# Altium footprint library Switch.PcbLib: 22 footprints (part 1 of 2)
Each footprint in its own frame and in the unit in brackets; x right, y up, seen from the top. Pads: shape width x height; smd on the part's side, far side on the other; paste and mask are expansions set on the pad; w line width, h text height; cw(c..) or ccw(c..) is an arc to the next point about the centre after c.
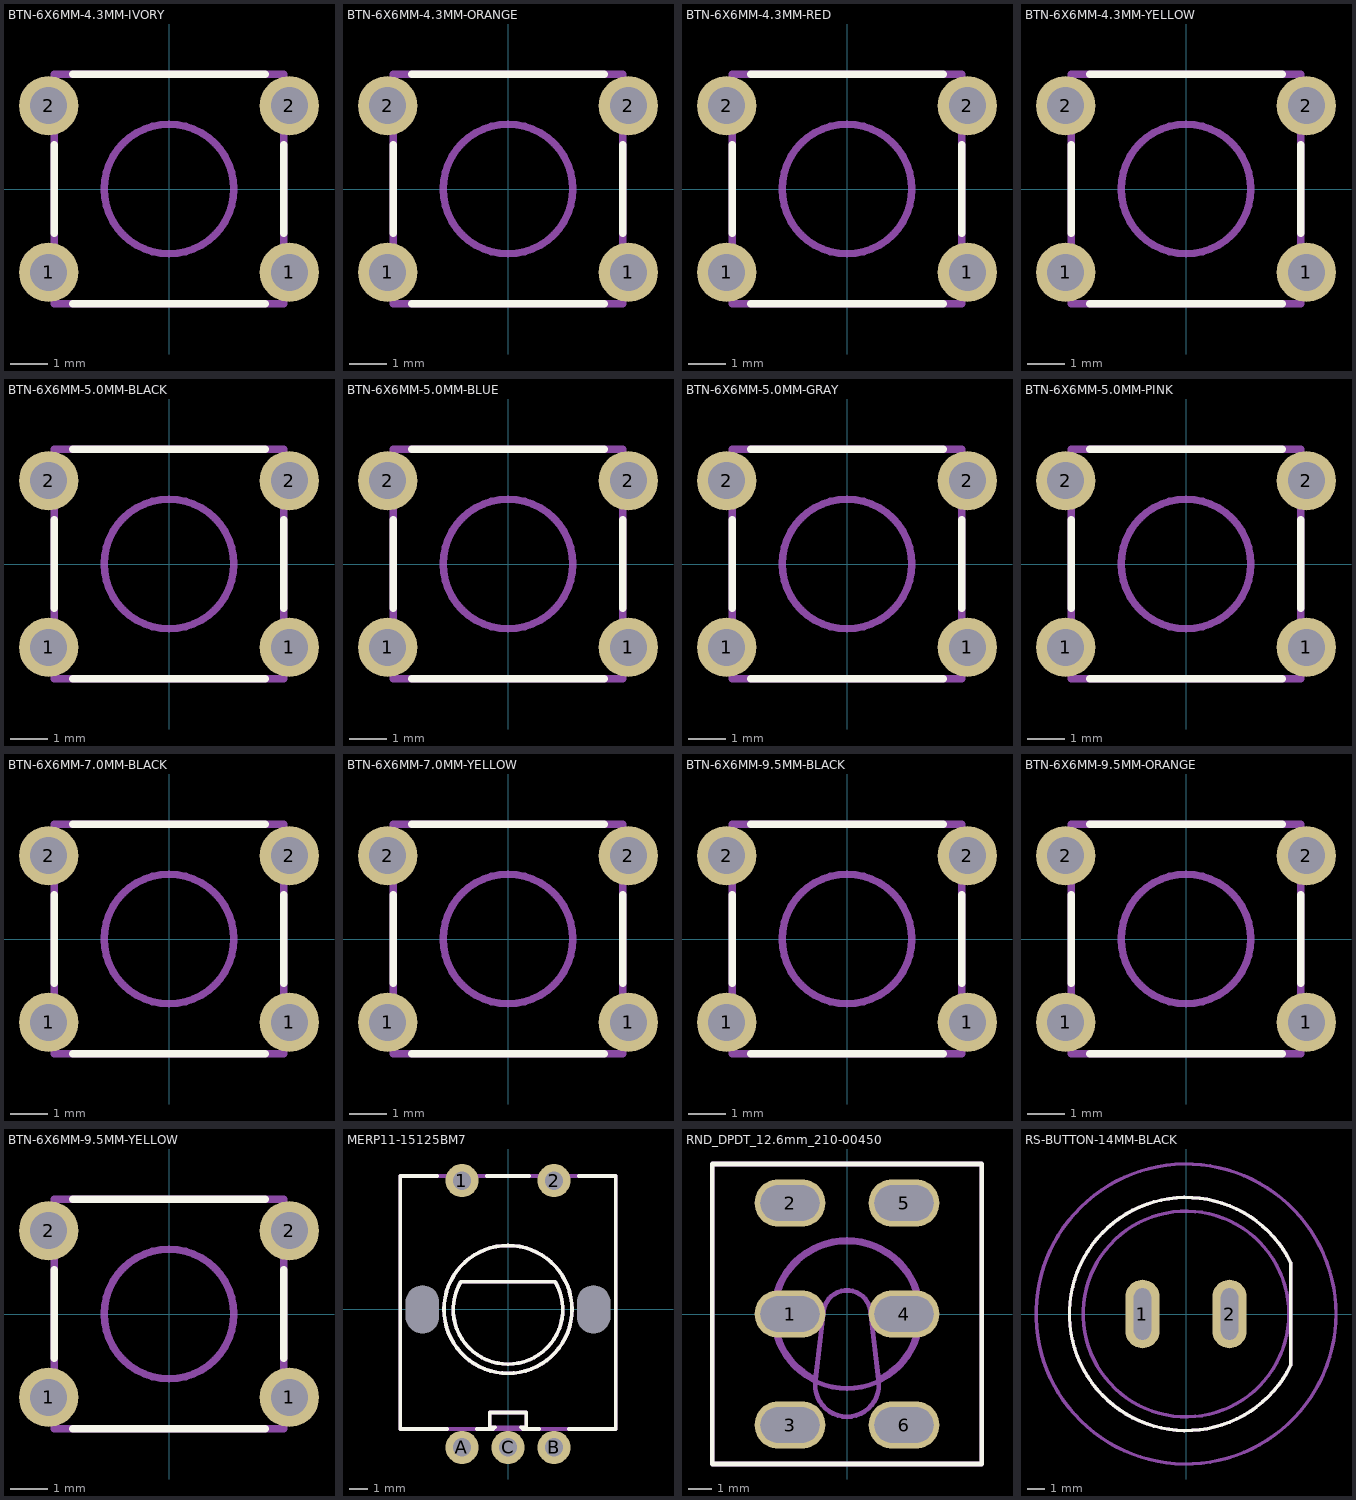
[diagram p0: the footprints below, top view; thin cyan lines are the x and y axes]

## BTN-6X6MM-4.3MM-IVORY [mm]
pads (4):
  round 1.6 hole 1: 1(-3.25,-2.25) 1(3.25,-2.25) 2(-3.25,2.25) 2(3.25,2.25)
Top Overlay:
  lines w0.2: -3.1,-1.2 -3.1,1.2 ; -2.6,-3.1 2.6,-3.1 ; -2.6,3.1 2.6,3.1 ; 3.1,-1.2 3.1,1.2
Top Assembly:
  circle w0.2: c0,0 r1.75
  lines w0.2: -3.1,-2.6 -3.85,-2.6 -3.85,-1.9 -3.1,-1.9 ; -3.1,1.9 -3.85,1.9 -3.85,2.6 -3.1,2.6 ; 3.1,-2.6 3.85,-2.6 3.85,-1.9 3.1,-1.9 ; 3.1,1.9 3.85,1.9 3.85,2.6 3.1,2.6 ; -3.1,-3.1 3.1,-3.1 3.1,3.1 -3.1,3.1 -3.1,-3.1
3D body: height 1.16, standoff -3.49, extent -3.85,1.9 -3.1,2.6
3D body: height 1.16, standoff -3.49, extent -3.85,-2.6 -3.1,-1.9
3D body: height 1.16, standoff -3.49, extent 3.1,-2.6 3.85,-1.9
3D body: height 4.3, standoff 3.3, extent -1.75,-1.75 1.75,1.75
3D body: height 3.9, standoff 2.9, extent 1.8,-2.8 2.8,-1.8
3D body: height 3.9, standoff 2.9, extent -2.8,-2.8 -1.8,-1.8
3D body: height 3.9, standoff 2.9, extent -2.8,1.8 -1.8,2.8
3D body: height 3.9, standoff 2.9, extent 1.818,1.818 2.818,2.818
3D body: height 3.3, standoff 0, extent -3.1,-3.1 3.1,3.1
3D body: height 3.4, standoff 3.3, extent -3.1,-3.1 3.1,3.1
3D body: height 1.16, standoff -3.49, extent 3.1,1.9 3.85,2.6

## BTN-6X6MM-4.3MM-ORANGE [mm]
pads (4):
  round 1.6 hole 1: 1(-3.25,-2.25) 1(3.25,-2.25) 2(-3.25,2.25) 2(3.25,2.25)
Top Overlay:
  lines w0.2: -3.1,-1.2 -3.1,1.2 ; -2.6,-3.1 2.6,-3.1 ; -2.6,3.1 2.6,3.1 ; 3.1,-1.2 3.1,1.2
Top Assembly:
  circle w0.2: c0,0 r1.75
  lines w0.2: -3.1,-2.6 -3.85,-2.6 -3.85,-1.9 -3.1,-1.9 ; -3.1,1.9 -3.85,1.9 -3.85,2.6 -3.1,2.6 ; 3.1,-2.6 3.85,-2.6 3.85,-1.9 3.1,-1.9 ; 3.1,1.9 3.85,1.9 3.85,2.6 3.1,2.6 ; -3.1,-3.1 3.1,-3.1 3.1,3.1 -3.1,3.1 -3.1,-3.1
3D body: height 1.16, standoff -3.49, extent -3.85,1.9 -3.1,2.6
3D body: height 1.16, standoff -3.49, extent -3.85,-2.6 -3.1,-1.9
3D body: height 1.16, standoff -3.49, extent 3.1,-2.6 3.85,-1.9
3D body: height 4.3, standoff 3.3, extent -1.75,-1.75 1.75,1.75
3D body: height 3.9, standoff 2.9, extent 1.8,-2.8 2.8,-1.8
3D body: height 3.9, standoff 2.9, extent -2.8,-2.8 -1.8,-1.8
3D body: height 3.9, standoff 2.9, extent -2.8,1.8 -1.8,2.8
3D body: height 3.9, standoff 2.9, extent 1.818,1.818 2.818,2.818
3D body: height 3.3, standoff 0, extent -3.1,-3.1 3.1,3.1
3D body: height 3.4, standoff 3.3, extent -3.1,-3.1 3.1,3.1
3D body: height 1.16, standoff -3.49, extent 3.1,1.9 3.85,2.6

## BTN-6X6MM-4.3MM-RED [mm]
pads (4):
  round 1.6 hole 1: 1(-3.25,-2.25) 1(3.25,-2.25) 2(-3.25,2.25) 2(3.25,2.25)
Top Overlay:
  lines w0.2: -3.1,-1.2 -3.1,1.2 ; -2.6,-3.1 2.6,-3.1 ; -2.6,3.1 2.6,3.1 ; 3.1,-1.2 3.1,1.2
Top Assembly:
  circle w0.2: c0,0 r1.75
  lines w0.2: -3.1,-2.6 -3.85,-2.6 -3.85,-1.9 -3.1,-1.9 ; -3.1,1.9 -3.85,1.9 -3.85,2.6 -3.1,2.6 ; 3.1,-2.6 3.85,-2.6 3.85,-1.9 3.1,-1.9 ; 3.1,1.9 3.85,1.9 3.85,2.6 3.1,2.6 ; -3.1,-3.1 3.1,-3.1 3.1,3.1 -3.1,3.1 -3.1,-3.1
3D body: height 1.16, standoff -3.49, extent -3.85,1.9 -3.1,2.6
3D body: height 1.16, standoff -3.49, extent -3.85,-2.6 -3.1,-1.9
3D body: height 1.16, standoff -3.49, extent 3.1,-2.6 3.85,-1.9
3D body: height 4.3, standoff 3.3, extent -1.75,-1.75 1.75,1.75
3D body: height 3.9, standoff 2.9, extent 1.8,-2.8 2.8,-1.8
3D body: height 3.9, standoff 2.9, extent -2.8,-2.8 -1.8,-1.8
3D body: height 3.9, standoff 2.9, extent -2.8,1.8 -1.8,2.8
3D body: height 3.9, standoff 2.9, extent 1.818,1.818 2.818,2.818
3D body: height 3.3, standoff 0, extent -3.1,-3.1 3.1,3.1
3D body: height 3.4, standoff 3.3, extent -3.1,-3.1 3.1,3.1
3D body: height 1.16, standoff -3.49, extent 3.1,1.9 3.85,2.6

## BTN-6X6MM-4.3MM-YELLOW [mm]
pads (4):
  round 1.6 hole 1: 1(-3.25,-2.25) 1(3.25,-2.25) 2(-3.25,2.25) 2(3.25,2.25)
Top Overlay:
  lines w0.2: -3.1,-1.2 -3.1,1.2 ; -2.6,-3.1 2.6,-3.1 ; -2.6,3.1 2.6,3.1 ; 3.1,-1.2 3.1,1.2
Top Assembly:
  circle w0.2: c0,0 r1.75
  lines w0.2: -3.1,-2.6 -3.85,-2.6 -3.85,-1.9 -3.1,-1.9 ; -3.1,1.9 -3.85,1.9 -3.85,2.6 -3.1,2.6 ; 3.1,-2.6 3.85,-2.6 3.85,-1.9 3.1,-1.9 ; 3.1,1.9 3.85,1.9 3.85,2.6 3.1,2.6 ; -3.1,-3.1 3.1,-3.1 3.1,3.1 -3.1,3.1 -3.1,-3.1
3D body: height 1.16, standoff -3.49, extent -3.85,1.9 -3.1,2.6
3D body: height 1.16, standoff -3.49, extent -3.85,-2.6 -3.1,-1.9
3D body: height 1.16, standoff -3.49, extent 3.1,-2.6 3.85,-1.9
3D body: height 4.3, standoff 3.3, extent -1.75,-1.75 1.75,1.75
3D body: height 3.9, standoff 2.9, extent 1.8,-2.8 2.8,-1.8
3D body: height 3.9, standoff 2.9, extent -2.8,-2.8 -1.8,-1.8
3D body: height 3.9, standoff 2.9, extent -2.8,1.8 -1.8,2.8
3D body: height 3.9, standoff 2.9, extent 1.818,1.818 2.818,2.818
3D body: height 3.3, standoff 0, extent -3.1,-3.1 3.1,3.1
3D body: height 3.4, standoff 3.3, extent -3.1,-3.1 3.1,3.1
3D body: height 1.16, standoff -3.49, extent 3.1,1.9 3.85,2.6

## BTN-6X6MM-5.0MM-BLACK [mm]
pads (4):
  round 1.6 hole 1: 1(-3.25,-2.25) 1(3.25,-2.25) 2(-3.25,2.25) 2(3.25,2.25)
Top Overlay:
  lines w0.2: -3.1,-1.2 -3.1,1.2 ; -2.6,-3.1 2.6,-3.1 ; -2.6,3.1 2.6,3.1 ; 3.1,-1.2 3.1,1.2
Top Assembly:
  circle w0.2: c0,0 r1.75
  lines w0.2: -3.1,-2.6 -3.85,-2.6 -3.85,-1.9 -3.1,-1.9 ; -3.1,1.9 -3.85,1.9 -3.85,2.6 -3.1,2.6 ; 3.1,-2.6 3.85,-2.6 3.85,-1.9 3.1,-1.9 ; 3.1,1.9 3.85,1.9 3.85,2.6 3.1,2.6 ; -3.1,-3.1 -3.1,3.1 3.1,3.1 3.1,-3.1 -3.1,-3.1
3D body: height 1.16, standoff -3.49, extent 3.1,1.9 3.85,2.6
3D body: height 3.4, standoff 3.3, extent -3.1,-3.1 3.1,3.1
3D body: height 3.3, standoff 0, extent -3.1,-3.1 3.1,3.1
3D body: height 3.9, standoff 2.9, extent 1.818,1.818 2.818,2.818
3D body: height 3.9, standoff 2.9, extent -2.8,1.8 -1.8,2.8
3D body: height 3.9, standoff 2.9, extent -2.8,-2.8 -1.8,-1.8
3D body: height 3.9, standoff 2.9, extent 1.8,-2.8 2.8,-1.8
3D body: height 5, standoff 3.3, extent -1.75,-1.75 1.75,1.75
3D body: height 1.16, standoff -3.49, extent 3.1,-2.6 3.85,-1.9
3D body: height 1.16, standoff -3.49, extent -3.85,-2.6 -3.1,-1.9
3D body: height 1.16, standoff -3.49, extent -3.85,1.9 -3.1,2.6

## BTN-6X6MM-5.0MM-BLUE [mm]
pads (4):
  round 1.6 hole 1: 1(-3.25,-2.25) 1(3.25,-2.25) 2(-3.25,2.25) 2(3.25,2.25)
Top Overlay:
  lines w0.2: -3.1,-1.2 -3.1,1.2 ; -2.6,-3.1 2.6,-3.1 ; -2.6,3.1 2.6,3.1 ; 3.1,-1.2 3.1,1.2
Top Assembly:
  circle w0.2: c0,0 r1.75
  lines w0.2: -3.1,-2.6 -3.85,-2.6 -3.85,-1.9 -3.1,-1.9 ; -3.1,1.9 -3.85,1.9 -3.85,2.6 -3.1,2.6 ; 3.1,-2.6 3.85,-2.6 3.85,-1.9 3.1,-1.9 ; 3.1,1.9 3.85,1.9 3.85,2.6 3.1,2.6 ; -3.1,-3.1 -3.1,3.1 3.1,3.1 3.1,-3.1 -3.1,-3.1
3D body: height 1.16, standoff -3.49, extent 3.1,1.9 3.85,2.6
3D body: height 3.4, standoff 3.3, extent -3.1,-3.1 3.1,3.1
3D body: height 3.3, standoff 0, extent -3.1,-3.1 3.1,3.1
3D body: height 3.9, standoff 2.9, extent 1.818,1.818 2.818,2.818
3D body: height 3.9, standoff 2.9, extent -2.8,1.8 -1.8,2.8
3D body: height 3.9, standoff 2.9, extent -2.8,-2.8 -1.8,-1.8
3D body: height 3.9, standoff 2.9, extent 1.8,-2.8 2.8,-1.8
3D body: height 5, standoff 3.3, extent -1.75,-1.75 1.75,1.75
3D body: height 1.16, standoff -3.49, extent 3.1,-2.6 3.85,-1.9
3D body: height 1.16, standoff -3.49, extent -3.85,-2.6 -3.1,-1.9
3D body: height 1.16, standoff -3.49, extent -3.85,1.9 -3.1,2.6

## BTN-6X6MM-5.0MM-GRAY [mm]
pads (4):
  round 1.6 hole 1: 1(-3.25,-2.25) 1(3.25,-2.25) 2(-3.25,2.25) 2(3.25,2.25)
Top Overlay:
  lines w0.2: -3.1,-1.2 -3.1,1.2 ; -2.6,-3.1 2.6,-3.1 ; -2.6,3.1 2.6,3.1 ; 3.1,-1.2 3.1,1.2
Top Assembly:
  circle w0.2: c0,0 r1.75
  lines w0.2: -3.1,-2.6 -3.85,-2.6 -3.85,-1.9 -3.1,-1.9 ; -3.1,1.9 -3.85,1.9 -3.85,2.6 -3.1,2.6 ; 3.1,-2.6 3.85,-2.6 3.85,-1.9 3.1,-1.9 ; 3.1,1.9 3.85,1.9 3.85,2.6 3.1,2.6 ; -3.1,-3.1 -3.1,3.1 3.1,3.1 3.1,-3.1 -3.1,-3.1
3D body: height 1.16, standoff -3.49, extent 3.1,1.9 3.85,2.6
3D body: height 3.4, standoff 3.3, extent -3.1,-3.1 3.1,3.1
3D body: height 3.3, standoff 0, extent -3.1,-3.1 3.1,3.1
3D body: height 3.9, standoff 2.9, extent 1.818,1.818 2.818,2.818
3D body: height 3.9, standoff 2.9, extent -2.8,1.8 -1.8,2.8
3D body: height 3.9, standoff 2.9, extent -2.8,-2.8 -1.8,-1.8
3D body: height 3.9, standoff 2.9, extent 1.8,-2.8 2.8,-1.8
3D body: height 5, standoff 3.3, extent -1.75,-1.75 1.75,1.75
3D body: height 1.16, standoff -3.49, extent 3.1,-2.6 3.85,-1.9
3D body: height 1.16, standoff -3.49, extent -3.85,-2.6 -3.1,-1.9
3D body: height 1.16, standoff -3.49, extent -3.85,1.9 -3.1,2.6

## BTN-6X6MM-5.0MM-PINK [mm]
pads (4):
  round 1.6 hole 1: 1(-3.25,-2.25) 1(3.25,-2.25) 2(-3.25,2.25) 2(3.25,2.25)
Top Overlay:
  lines w0.2: -3.1,-1.2 -3.1,1.2 ; -2.6,-3.1 2.6,-3.1 ; -2.6,3.1 2.6,3.1 ; 3.1,-1.2 3.1,1.2
Top Assembly:
  circle w0.2: c0,0 r1.75
  lines w0.2: -3.1,-2.6 -3.85,-2.6 -3.85,-1.9 -3.1,-1.9 ; -3.1,1.9 -3.85,1.9 -3.85,2.6 -3.1,2.6 ; 3.1,-2.6 3.85,-2.6 3.85,-1.9 3.1,-1.9 ; 3.1,1.9 3.85,1.9 3.85,2.6 3.1,2.6 ; -3.1,-3.1 -3.1,3.1 3.1,3.1 3.1,-3.1 -3.1,-3.1
3D body: height 1.16, standoff -3.49, extent 3.1,1.9 3.85,2.6
3D body: height 3.4, standoff 3.3, extent -3.1,-3.1 3.1,3.1
3D body: height 3.3, standoff 0, extent -3.1,-3.1 3.1,3.1
3D body: height 3.9, standoff 2.9, extent 1.818,1.818 2.818,2.818
3D body: height 3.9, standoff 2.9, extent -2.8,1.8 -1.8,2.8
3D body: height 3.9, standoff 2.9, extent -2.8,-2.8 -1.8,-1.8
3D body: height 3.9, standoff 2.9, extent 1.8,-2.8 2.8,-1.8
3D body: height 5, standoff 3.3, extent -1.75,-1.75 1.75,1.75
3D body: height 1.16, standoff -3.49, extent 3.1,-2.6 3.85,-1.9
3D body: height 1.16, standoff -3.49, extent -3.85,-2.6 -3.1,-1.9
3D body: height 1.16, standoff -3.49, extent -3.85,1.9 -3.1,2.6

## BTN-6X6MM-7.0MM-BLACK [mm]
pads (4):
  round 1.6 hole 1: 1(-3.25,-2.25) 1(3.25,-2.25) 2(-3.25,2.25) 2(3.25,2.25)
Top Overlay:
  lines w0.2: -3.1,-1.2 -3.1,1.2 ; -2.6,-3.1 2.6,-3.1 ; -2.6,3.1 2.6,3.1 ; 3.1,-1.2 3.1,1.2
Top Assembly:
  circle w0.2: c0,0 r1.75
  lines w0.2: -3.1,-2.6 -3.85,-2.6 -3.85,-1.9 -3.1,-1.9 ; -3.1,1.9 -3.85,1.9 -3.85,2.6 -3.1,2.6 ; 3.1,-2.6 3.85,-2.6 3.85,-1.9 3.1,-1.9 ; 3.1,1.9 3.85,1.9 3.85,2.6 3.1,2.6 ; -3.1,-3.1 3.1,-3.1 3.1,3.1 -3.1,3.1 -3.1,-3.1
3D body: height 1.16, standoff -3.49, extent -3.85,1.9 -3.1,2.6
3D body: height 1.16, standoff -3.49, extent -3.85,-2.6 -3.1,-1.9
3D body: height 1.16, standoff -3.49, extent 3.1,-2.6 3.85,-1.9
3D body: height 7, standoff 3.3, extent -1.75,-1.75 1.75,1.75
3D body: height 3.9, standoff 2.9, extent 1.8,-2.8 2.8,-1.8
3D body: height 3.9, standoff 2.9, extent -2.8,-2.8 -1.8,-1.8
3D body: height 3.9, standoff 2.9, extent -2.8,1.8 -1.8,2.8
3D body: height 3.9, standoff 2.9, extent 1.818,1.818 2.818,2.818
3D body: height 3.3, standoff 0, extent -3.1,-3.1 3.1,3.1
3D body: height 3.4, standoff 3.3, extent -3.1,-3.1 3.1,3.1
3D body: height 1.16, standoff -3.49, extent 3.1,1.9 3.85,2.6

## BTN-6X6MM-7.0MM-YELLOW [mm]
pads (4):
  round 1.6 hole 1: 1(-3.25,-2.25) 1(3.25,-2.25) 2(-3.25,2.25) 2(3.25,2.25)
Top Overlay:
  lines w0.2: -3.1,-1.2 -3.1,1.2 ; -2.6,-3.1 2.6,-3.1 ; -2.6,3.1 2.6,3.1 ; 3.1,-1.2 3.1,1.2
Top Assembly:
  circle w0.2: c0,0 r1.75
  lines w0.2: -3.1,-2.6 -3.85,-2.6 -3.85,-1.9 -3.1,-1.9 ; -3.1,1.9 -3.85,1.9 -3.85,2.6 -3.1,2.6 ; 3.1,-2.6 3.85,-2.6 3.85,-1.9 3.1,-1.9 ; 3.1,1.9 3.85,1.9 3.85,2.6 3.1,2.6 ; -3.1,-3.1 -3.1,3.1 3.1,3.1 3.1,-3.1 -3.1,-3.1
3D body: height 1.16, standoff -3.49, extent 3.1,1.9 3.85,2.6
3D body: height 3.4, standoff 3.3, extent -3.1,-3.1 3.1,3.1
3D body: height 3.3, standoff 0, extent -3.1,-3.1 3.1,3.1
3D body: height 3.9, standoff 2.9, extent 1.818,1.818 2.818,2.818
3D body: height 3.9, standoff 2.9, extent -2.8,1.8 -1.8,2.8
3D body: height 3.9, standoff 2.9, extent -2.8,-2.8 -1.8,-1.8
3D body: height 3.9, standoff 2.9, extent 1.8,-2.8 2.8,-1.8
3D body: height 7, standoff 3.3, extent -1.75,-1.75 1.75,1.75
3D body: height 1.16, standoff -3.49, extent 3.1,-2.6 3.85,-1.9
3D body: height 1.16, standoff -3.49, extent -3.85,-2.6 -3.1,-1.9
3D body: height 1.16, standoff -3.49, extent -3.85,1.9 -3.1,2.6

## BTN-6X6MM-9.5MM-BLACK [mm]
pads (4):
  round 1.6 hole 1: 1(-3.25,-2.25) 1(3.25,-2.25) 2(-3.25,2.25) 2(3.25,2.25)
Top Overlay:
  lines w0.2: -3.1,-1.2 -3.1,1.2 ; -2.6,-3.1 2.6,-3.1 ; -2.6,3.1 2.6,3.1 ; 3.1,-1.2 3.1,1.2
Top Assembly:
  circle w0.2: c0,0 r1.75
  lines w0.2: -3.1,-2.6 -3.85,-2.6 -3.85,-1.9 -3.1,-1.9 ; -3.1,1.9 -3.85,1.9 -3.85,2.6 -3.1,2.6 ; 3.1,-2.6 3.85,-2.6 3.85,-1.9 3.1,-1.9 ; 3.1,1.9 3.85,1.9 3.85,2.6 3.1,2.6 ; -3.1,-3.1 -3.1,3.1 3.1,3.1 3.1,-3.1 -3.1,-3.1
3D body: height 1.16, standoff -3.49, extent 3.1,1.9 3.85,2.6
3D body: height 3.4, standoff 3.3, extent -3.1,-3.1 3.1,3.1
3D body: height 3.3, standoff 0, extent -3.1,-3.1 3.1,3.1
3D body: height 3.9, standoff 2.9, extent 1.818,1.818 2.818,2.818
3D body: height 3.9, standoff 2.9, extent -2.8,1.8 -1.8,2.8
3D body: height 3.9, standoff 2.9, extent -2.8,-2.8 -1.8,-1.8
3D body: height 3.9, standoff 2.9, extent 1.8,-2.8 2.8,-1.8
3D body: height 9.5, standoff 3.3, extent -1.75,-1.75 1.75,1.75
3D body: height 1.16, standoff -3.49, extent 3.1,-2.6 3.85,-1.9
3D body: height 1.16, standoff -3.49, extent -3.85,-2.6 -3.1,-1.9
3D body: height 1.16, standoff -3.49, extent -3.85,1.9 -3.1,2.6

## BTN-6X6MM-9.5MM-ORANGE [mm]
pads (4):
  round 1.6 hole 1: 1(-3.25,-2.25) 1(3.25,-2.25) 2(-3.25,2.25) 2(3.25,2.25)
Top Overlay:
  lines w0.2: -3.1,-1.2 -3.1,1.2 ; -2.6,-3.1 2.6,-3.1 ; -2.6,3.1 2.6,3.1 ; 3.1,-1.2 3.1,1.2
Top Assembly:
  circle w0.2: c0,0 r1.75
  lines w0.2: -3.1,-2.6 -3.85,-2.6 -3.85,-1.9 -3.1,-1.9 ; -3.1,1.9 -3.85,1.9 -3.85,2.6 -3.1,2.6 ; 3.1,-2.6 3.85,-2.6 3.85,-1.9 3.1,-1.9 ; 3.1,1.9 3.85,1.9 3.85,2.6 3.1,2.6 ; -3.1,-3.1 3.1,-3.1 3.1,3.1 -3.1,3.1 -3.1,-3.1
3D body: height 1.16, standoff -3.49, extent -3.85,1.9 -3.1,2.6
3D body: height 1.16, standoff -3.49, extent -3.85,-2.6 -3.1,-1.9
3D body: height 1.16, standoff -3.49, extent 3.1,-2.6 3.85,-1.9
3D body: height 9.5, standoff 3.3, extent -1.75,-1.75 1.75,1.75
3D body: height 3.9, standoff 2.9, extent 1.8,-2.8 2.8,-1.8
3D body: height 3.9, standoff 2.9, extent -2.8,-2.8 -1.8,-1.8
3D body: height 3.9, standoff 2.9, extent -2.8,1.8 -1.8,2.8
3D body: height 3.9, standoff 2.9, extent 1.818,1.818 2.818,2.818
3D body: height 3.3, standoff 0, extent -3.1,-3.1 3.1,3.1
3D body: height 3.4, standoff 3.3, extent -3.1,-3.1 3.1,3.1
3D body: height 1.16, standoff -3.49, extent 3.1,1.9 3.85,2.6

## BTN-6X6MM-9.5MM-YELLOW [mm]
pads (4):
  round 1.6 hole 1: 1(-3.25,-2.25) 1(3.25,-2.25) 2(-3.25,2.25) 2(3.25,2.25)
Top Overlay:
  lines w0.2: -3.1,-1.2 -3.1,1.2 ; -2.6,-3.1 2.6,-3.1 ; -2.6,3.1 2.6,3.1 ; 3.1,-1.2 3.1,1.2
Top Assembly:
  circle w0.2: c0,0 r1.75
  lines w0.2: -3.1,-2.6 -3.85,-2.6 -3.85,-1.9 -3.1,-1.9 ; -3.1,1.9 -3.85,1.9 -3.85,2.6 -3.1,2.6 ; 3.1,-2.6 3.85,-2.6 3.85,-1.9 3.1,-1.9 ; 3.1,1.9 3.85,1.9 3.85,2.6 3.1,2.6 ; -3.1,-3.1 3.1,-3.1 3.1,3.1 -3.1,3.1 -3.1,-3.1
3D body: height 1.16, standoff -3.49, extent -3.85,1.9 -3.1,2.6
3D body: height 1.16, standoff -3.49, extent -3.85,-2.6 -3.1,-1.9
3D body: height 1.16, standoff -3.49, extent 3.1,-2.6 3.85,-1.9
3D body: height 9.5, standoff 3.3, extent -1.75,-1.75 1.75,1.75
3D body: height 3.9, standoff 2.9, extent 1.8,-2.8 2.8,-1.8
3D body: height 3.9, standoff 2.9, extent -2.8,-2.8 -1.8,-1.8
3D body: height 3.9, standoff 2.9, extent -2.8,1.8 -1.8,2.8
3D body: height 3.9, standoff 2.9, extent 1.818,1.818 2.818,2.818
3D body: height 3.3, standoff 0, extent -3.1,-3.1 3.1,3.1
3D body: height 3.4, standoff 3.3, extent -3.1,-3.1 3.1,3.1
3D body: height 1.16, standoff -3.49, extent 3.1,1.9 3.85,2.6

## MERP11-15125BM7 [mm] "Knitter Switch MERP11-15125BM7 Encode with switch"
pads (7):
  round 1.8 hole 1: 1(-2.5,7) 2(2.5,7) A(-2.5,-7.5) B(2.5,-7.5) C(0,-7.5)
  round 0 hole 1.8 slot 2.6 at 90 deg unplated: M(-4.65,0) M(4.65,0)
Top Overlay:
  circle w0.2: c0,0 r3.475
  lines w0.2: -3.85,7.25 -5.85,7.25 -5.85,-6.5 -3.3,-6.5 ; -1.7,-6.5 -0.8,-6.5 ; -1.15,7.25 1.15,7.25 ; -0.7,-6.4 -1,-6.4 -1,-5.6 1,-5.6 1,-6.4 0.7,-6.4 ; 0.8,-6.5 1.7,-6.5 ; 3.3,-6.5 5.85,-6.5 5.85,7.25 3.85,7.25 ; -2.569,1.5 ccw(c0,0) 2.569,1.5 -2.569,1.5
Top Assembly:
  circle w0.2: c0,0 r3.475
  lines w0.2: -5.85,-6.5 5.85,-6.5 5.85,7.25 -5.85,7.25 -5.85,-6.5 ; -2.569,1.5 ccw(c0,0) 2.569,1.5 -2.569,1.5 ; -1,-6.4 1,-6.4 1,-5.6 -1,-5.6 -1,-6.4
3D body: height 31.6, standoff 19.6, extent -3,-3 3,1.501
3D body: height 14.6, standoff 13.6, extent -2.025,-2.002 1.975,1.998
3D body: height 13.6, standoff 6.6, extent -3.525,-3.502 3.475,3.498
3D body: height 19.6, standoff 14, extent -3.025,-3.002 2.975,2.998
3D body: height 0, standoff -3.5, extent 4.5,-1.25 4.8,1.25
3D body: height 0, standoff -3.5, extent -4.8,-1.25 -4.5,1.25
3D body: height 7.4, standoff 6.6, extent -1,-6.4 1,-5.6
3D body: height 3, standoff 2.85, extent 2.05,-7.675 2.95,-6.5
3D body: height 3, standoff 2.85, extent -0.45,-7.675 0.45,-6.5
3D body: height 3, standoff 2.85, extent -2.95,-7.675 -2.05,-6.5
3D body: height 3, standoff -3.5, extent 2.05,7.025 2.95,7.175
3D body: height 3, standoff -3.5, extent -2.95,7.025 -2.05,7.175
3D body: height 3, standoff -3.5, extent 2.05,-7.675 2.95,-7.525
3D body: height 3, standoff -3.5, extent -2.95,-7.675 -2.05,-7.525
3D body: height 3, standoff -3.5, extent -0.45,-7.675 0.45,-7.525
3D body: height 6.6, standoff 0, extent -5.85,-6.5 5.85,7.25

## RND_DPDT_12.6mm_210-00450 [mm]
pads (6):
  oval 3x2 hole 1.5 slot 2.5 at 0 deg: 1(-2.413,0) 2(-2.413,4.699) 3(-2.413,-4.699) 4(2.413,0) 5(2.413,4.699) 6(2.413,-4.699)
Top Overlay:
  lines w0.2: -5.7,-6.35 5.7,-6.35 5.7,6.35 -5.7,6.35 -5.7,-6.35
Panel Cutout:
  circle w0.2: c0,0 r3.15
Top Assembly:
  lines w0.2: -1.327,-2.746 cw(c0,0) -2.875,-1.018 -2.875,1.018 cw(c0,0) 2.875,1.018 2.875,-1.018 cw(c0,0) 1.327,-2.746 ; -5.7,-6.35 -5.7,6.35 5.7,6.35 5.7,-6.35 -5.7,-6.35 ; -1.329,-2.766 ccw(c0,-3) 1.329,-2.766 0.985,0.174 ccw(c0,0) -0.985,0.174 -1.329,-2.766
3D body: height -3.25, standoff -3.65, extent 1.397,4.318 3.429,5.08
3D body: height -1.25, standoff -3.25, extent 1.397,4.318 1.778,5.08
3D body: height -1.25, standoff -3.25, extent 3.048,4.318 3.429,5.08
3D body: height 1, standoff -1.25, extent 1.397,4.318 3.429,5.08
3D body: height -3.25, standoff -3.65, extent 1.397,-0.381 3.429,0.381
3D body: height -1.25, standoff -3.25, extent 1.397,-0.381 1.778,0.381
3D body: height -1.25, standoff -3.25, extent 3.048,-0.381 3.429,0.381
3D body: height 1, standoff -1.25, extent 1.397,-0.381 3.429,0.381
3D body: height -3.25, standoff -3.65, extent 1.397,-5.08 3.429,-4.318
3D body: height -1.25, standoff -3.25, extent 1.397,-5.08 1.778,-4.318
3D body: height -1.25, standoff -3.25, extent 3.048,-5.08 3.429,-4.318
3D body: height 1, standoff -1.25, extent 1.397,-5.08 3.429,-4.318
3D body: height -3.25, standoff -3.65, extent -3.429,-5.08 -1.397,-4.318
3D body: height -1.25, standoff -3.25, extent -3.429,-5.08 -3.048,-4.318
3D body: height -1.25, standoff -3.25, extent -1.778,-5.08 -1.397,-4.318
3D body: height 1, standoff -1.25, extent -3.429,-5.08 -1.397,-4.318
3D body: height -3.25, standoff -3.65, extent -3.429,-0.381 -1.397,0.381
3D body: height -1.25, standoff -3.25, extent -3.429,-0.381 -3.048,0.381
3D body: height -1.25, standoff -3.25, extent -1.778,-0.381 -1.397,0.381
3D body: height 1, standoff -1.25, extent -3.429,-0.381 -1.397,0.381
3D body: height -3.25, standoff -3.65, extent -3.429,4.318 -1.397,5.08
3D body: height -1.25, standoff -3.25, extent -3.429,4.318 -3.048,5.08
3D body: height -1.25, standoff -3.25, extent -1.778,4.318 -1.397,5.08
3D body: height 1, standoff -1.25, extent -3.429,4.318 -1.397,5.08
3D body: height 0.5, standoff 0, extent -5.7,5.588 5.7,6.35
3D body: height 0.5, standoff 0, extent -5.7,-6.35 5.7,-5.588
3D body: height 10.5, standoff 0.5, extent -5.7,-6.35 5.7,6.35
3D body: height 16.85, standoff 10.5, extent -2.875,-3.05 2.875,3.05
3D body: height 23.57, standoff 15.04, extent -1.35,-4.039 1.35,1.269
3D body: height 24.45, standoff 21.75, extent -1.35,-4.115 1.35,-1.415

## RS-BUTTON-14MM-BLACK [mm]
pads (2):
  oval 2x4 hole 1 slot 3 at 90 deg: 1(-2.54,0) 2(2.54,0)
Top Overlay:
  lines w0.2: 6.1,-3.005 cw(c0,0) 6.1,3.005 6.1,-3.005
Panel Cutout:
  lines w0.2: 6.1,-3.005 cw(c0,0) 6.1,3.005 6.1,-3.005
Top Assembly:
  circle w0.2: c0,0 r6
  circle w0.2: c0,0 r8.75
3D body "Button_RS_14mm_black.step": height 18, standoff -2.4, extent -8.738,-8.747 8.75,8.747